# EAGLE library part DS1134-07-S8B0P (library DS1134-07-S8B0P)
RJ45 8 1 Does Not ContainLED Through Hole Ethernet Connectors/Modular Connectors (RJ45 RJ11) RoHS Source: Datasheet <https://datasheet.lcsc.com/lcsc/1811141111_CONNFLY-Elec-DS1134-07-S8B0P_C86579.pdf>
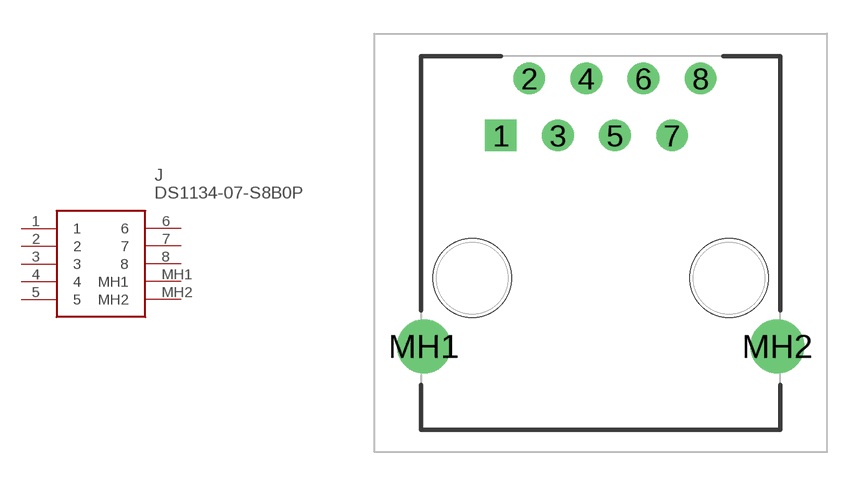
[diagram p0: symbol with the pads of DS113407S8B0P; footprint DS113407S8B0P]

Designator prefix J

## DS1134-07-S8B0P (DESCRIPTION: RJ45 8 1 Does Not ContainLED Through Hole Ethernet Connectors/Modular Connectors (RJ45 RJ11) RoHS; HEIGHT: 16.98mm; MANUFACTURER_NAME: Connfly; MANUFACTURER_PART_NUMBER: DS1134-07-S8B0P)  [DS113407S8B0P]
1  1
2  2
3  3
4  4
5  5
6  6
7  7
8  8
MH1  MH1
MH2  MH2

## Footprint DS113407S8B0P (pad centres in mm)
DS1134-07-S8B0P-2
drill 0.9 pad 1.4 square: 1 0,0
drill 0.9 pad 1.4: 2 1.27,2.54; 3 2.54,0; 4 3.81,2.54; 5 5.08,0; 6 6.35,2.54; 7 7.62,0; 8 8.89,2.54
drill 1.6 pad 2.134: MH1 -3.43,-9.4; MH2 12.32,-9.4
hole 3.5 at -1.27,-6.35
hole 3.5 at 10.16,-6.35